# Altium footprint library HIF3FC-14PA-2P54DS_71_.PcbLib: 1 footprints
Each footprint in its own frame and in the unit in brackets; x right, y up, seen from the top. Pads: shape width x height; smd on the part's side, far side on the other; paste and mask are expansions set on the pad; w line width, h text height; cw(c..) or ccw(c..) is an arc to the next point about the centre after c.
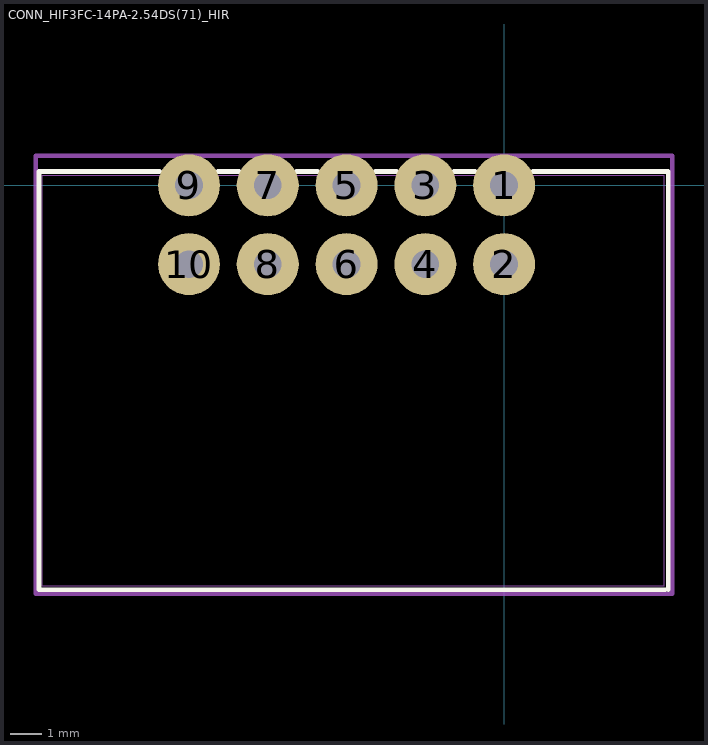
[diagram p0: the footprint, top view; thin cyan lines are the x and y axes]

## CONN_HIF3FC-14PA-2.54DS(71)_HIR [mm]
pads (10):
  round 2 hole 0.889 mask+0: 1(0,0) 2(0,-2.54) 3(-2.54,0) 4(-2.54,-2.54) 5(-5.08,0) 6(-5.08,-2.54) 7(-7.62,0) 8(-7.62,-2.54) 9(-10.16,0) 10(-10.16,-2.54)
Top Overlay:
  lines w0.152: -11.1,0.447 -15,0.447 -15,-13.04 5.2,-13.04 ; -9.231,0.447 -8.549,0.447 ; -6.691,0.447 -6.009,0.447 ; -4.151,0.447 -3.469,0.447 ; -1.611,0.447 -0.929,0.447 ; 0.929,0.447 5.296,0.447 5.296,-13.04
Mechanical 13:
  lines w0.025: -14.9,-12.913 -14.9,0.32 5.169,0.32 5.169,-12.913 -14.9,-12.913
Mechanical 15:
  lines w0.152: -15.1,-13.167 5.423,-13.167 5.423,0.953 -15.1,0.953 -15.1,-13.167
3D body "HIF3FC-10PA-2.54DS.stp": height 8.75, standoff -3.05, extent -15.2,-12.7 5,0.27